# EAGLE library part 1085 (library cots_dev)
ADS1115 - 16 Bit 860 Samples per Second Analog to Digital Converter (ADC) Evaluation Board Check availability <https://pricing.snapeda.com/parts/1085/Adafruit%20Industries/view-part?ref=eda>
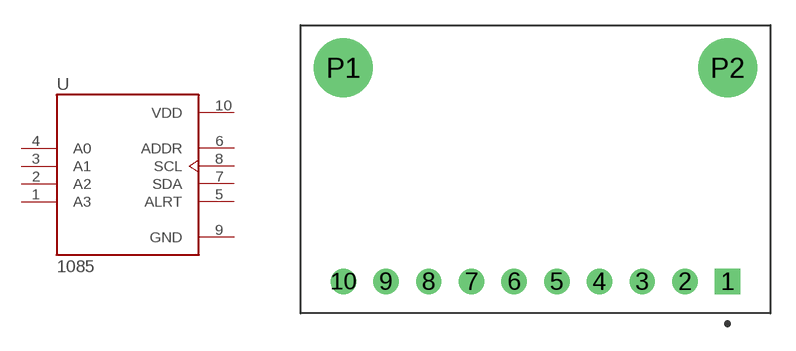
[diagram p3: symbol with the pads of MODULE_1085; footprint MODULE_1085]

Designator prefix U

## 1085 (AVAILABILITY: In Stock; DESCRIPTION: ADS1115 series 16 Bit 860 Samples per Second Analog to Digital Converter (ADC) Evaluation Board; MF: Adafruit Industries; MP: 1085; PACKAGE: NON STANDARD-16 Adafruit; PRICE: None; PURCHASE-URL: https://pricing.snapeda.com/search/part/1085/?ref=eda)  [MODULE_1085]
1  A3  in
2  A2  in
3  A1  in
4  A0  in
5  ALRT  out
6  ADDR  in
7  SDA
8  SCL  in
9  GND  pwr
10  VDD  pwr

## Footprint MODULE_1085 (pad centres in mm)
drill 1 square: 1 11.43,-6.668
drill 1: 2 8.89,-6.668; 3 6.35,-6.668; 4 3.81,-6.668; 5 1.27,-6.668; 6 -1.27,-6.668; 7 -3.81,-6.668; 8 -6.35,-6.668; 9 -8.89,-6.668; 10 -11.43,-6.668
drill 2.5: P1 -11.43,6.032; P2 11.43,6.032